# Altium footprint library Capasitor.PcbLib: 13 footprints
Each footprint in its own frame and in the unit in brackets; x right, y up, seen from the top. Pads: shape width x height; smd on the part's side, far side on the other; paste and mask are expansions set on the pad; w line width, h text height; cw(c..) or ccw(c..) is an arc to the next point about the centre after c.
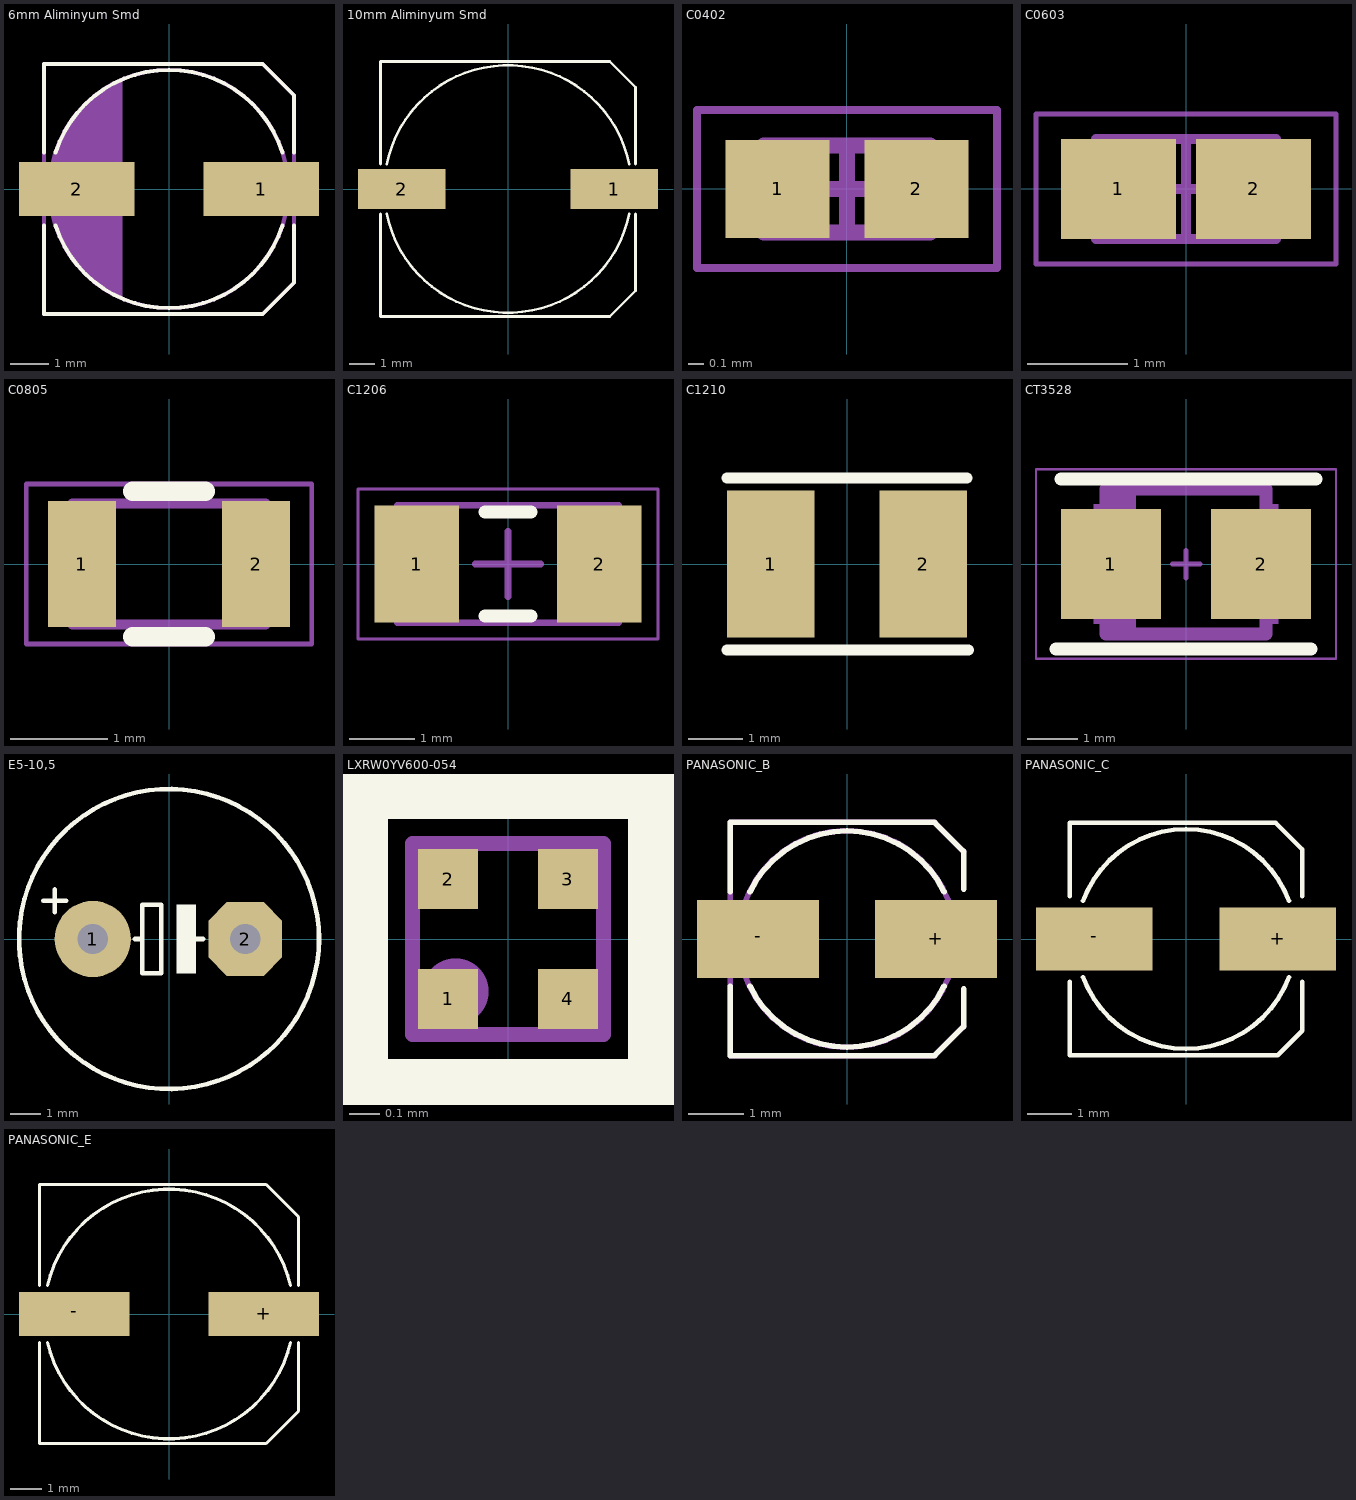
[diagram p0: the footprints below, top view; thin cyan lines are the x and y axes]

## 6mm Aliminyum Smd [mm]
pads (2):
  rect 3x1.4 smd: 1(2.4,0) 2(-2.4,0)
Top Overlay:
  lines w0.102: -3.25,-0.95 -3.25,-3.25 2.437,-3.25 3.25,-2.437 3.25,-0.95 ; -3.25,0.95 -3.25,3.25 2.437,3.25 3.25,2.437 3.25,0.95 ; -2.95,-0.95 ccw(c0,0) 2.95,-0.95 ; -2.95,0.95 cw(c0,0) 2.95,0.95
Mechanical 13:
  circle w0.1: c0,0 r3.1
  rectangle: 3.2,-0.6 3.5,0.6
  rectangle: -3.5,-0.6 -3.2,0.6
  rectangle: -2.125,-2.257 -1.263,2.299
  rectangle: -2.756,-1.419 -2.1,1.5
  rectangle: -3.1,-0.545 -2.7,0.5
  rectangle: -3.007,-0.754 -2.6,-0.5
  rectangle: -3,-0.9 -2.8,-0.7
  rectangle: -2.9,-0.9 -2.7,-0.7
  rectangle: -2.9,-1.1 -2.7,-0.9
  rectangle: -2.95,-0.95 -2.75,-0.75
  rectangle: -2.85,-1.25 -2.65,-1.05
  rectangle: -2.8,-1.375 -2.6,-1.175
  rectangle: -2.725,-1.55 -2.525,-1.35
  rectangle: -2.65,-1.675 -2.45,-1.475
  rectangle: -2.575,-1.8 -2.375,-1.6
  rectangle: -2.5,-1.875 -2.3,-1.675
  rectangle: -2.425,-1.975 -2.225,-1.775
  rectangle: -2.325,-2.075 -2.125,-1.875
  rectangle: -2.225,-2.175 -2.025,-1.975
  rectangle: -2.2,-2.225 -2,-2.025
  rectangle: -2.325,-2.125 -2.125,-1.925
  rectangle: -2.375,-2.025 -2.175,-1.825
  rectangle: -2.225,-1.95 -2.025,-1.75
  rectangle: -2.225,-2.05 -2.025,-1.85
  rectangle: -2.375,-1.8 -2.175,-1.6
  rectangle: -2.25,-1.775 -2.05,-1.575
  rectangle: -2.325,-1.925 -2.125,-1.725
  rectangle: -2.525,-1.675 -2.325,-1.475
  rectangle: -2.35,-1.675 -2.15,-1.475
  rectangle: -2.275,-1.675 -2.075,-1.475
  rectangle: -2.25,-1.55 -2.05,-1.35
  rectangle: -2.425,-1.55 -2.225,-1.35
  rectangle: -2.55,-1.55 -2.35,-1.35
  rectangle: -2.075,-2.375 -1.875,-2.175
  rectangle: -1.925,-2.475 -1.725,-2.275
  rectangle: -1.8,-2.575 -1.6,-2.375
  rectangle: -1.65,-2.65 -1.45,-2.45
  rectangle: -1.55,-2.725 -1.35,-2.525
  rectangle: -1.425,-2.8 -1.225,-2.6
  rectangle: -1.9,-2.475 -1.25,-2.2
  rectangle: -1.475,-2.65 -1.275,-2.45
  rectangle: -2.675,1.425 -2.475,1.625
  rectangle: -2.6,1.55 -2.4,1.75
  rectangle: -2.5,1.675 -2.3,1.875
  rectangle: -2.425,1.775 -2.225,1.975
  rectangle: -2.35,1.875 -2.15,2.075
  rectangle: -2.25,2 -2.05,2.2
  rectangle: -2.25,1.45 -2.05,2.05
  rectangle: -2.5,1.475 -2.125,1.8
  rectangle: -1.575,2.25 -1.3,2.7
  rectangle: -1.925,2.275 -1.45,2.475
  rectangle: -1.7,2.425 -1.5,2.625
  rectangle: -1.8,2.35 -1.6,2.55
  rectangle: -2.025,2.175 -1.825,2.375
  rectangle: -1.45,2.575 -1.25,2.775
  rectangle: -2.925,0.475 -2.725,1.025
  rectangle: -2.9,0.95 -2.7,1.15
  rectangle: -2.875,1.075 -2.675,1.275
  rectangle: -2.85,1.15 -2.65,1.35
  rectangle: -3.05,0.4 -2.85,0.75
  rectangle: -3.025,0.675 -2.825,0.875
  lines w0.1: -1.269,-2.829 -1.263,-2.829 -1.263,2.831
  lines w0.102: -3.25,-3.25 -3.25,-0.95 -3.25,3.25 2.437,3.25 3.25,2.437 3.25,-0.95 3.25,-2.437 2.437,-3.25 -3.25,-3.25
  text ".Designator" at 0.18,-0.387 h1
3D body "PANASONIC_D.step": height 5.71, standoff 0.01, extent -3.48,-3.3 3.52,3.3

## 10mm Aliminyum Smd [mm]
pads (2):
  rect 3.5x1.6 smd: 1(4.25,0) 2(-4.25,0)
Top Overlay:
  lines w0.102: -5.1,-1 -5.1,-5.1 4.07,-5.1 5.1,-4.07 5.1,-1 ; -5.1,1 -5.1,5.1 4.07,5.1 5.1,4.07 5.1,1 ; -4.85,-1 ccw(c0,0) 4.85,-1 ; -4.85,1 cw(c0,0) 4.85,1
3D body "10mmSmdAlimunyum.step": height 10.5, standoff 0, extent -5.775,-5.125 5.825,5.175

## C0402 [mm] "Chip Capacitor, 2-Leads, Body 1.00x0.50mm, IPC Medium Density"
height 0.55
pads (2):
  rect 0.66x0.62 smd: 1(-0.44,0) 2(0.44,0)
Mechanical 13:
  rectangle: -0.525,-0.275 -0.356,0.275
  rectangle: 0.349,-0.281 0.519,0.269
  lines w0.1: -0.525,-0.275 -0.525,0.275 0.525,0.275 0.525,-0.275 -0.525,-0.275
  text ".Designator" at -0.356,-0.037 h0.2
Mechanical 15:
  lines w0.05: -0.95,-0.5 -0.95,0.5 0.95,0.5 0.95,-0.5 -0.95,-0.5
  lines w0.1: -0.275,0 0.275,0 ; 0,-0.275 0,0.275
3D body "CAPC1005X06N.step": height 0.55, standoff 0, extent -0.525,-0.275 0.525,0.275

## C0603 [mm] "Chip Capacitor, 2-Leads, Body 1.60x0.80mm, IPC Medium Density"
height 1
pads (2):
  rect 1.15x1 smd: 1(-0.675,0) 2(0.675,0)
Mechanical 13:
  rectangle: -0.887,-0.5 -0.582,0.5
  rectangle: 0.595,-0.5 0.9,0.5
  lines w0.1: -0.9,-0.5 0.9,-0.5 0.9,0.5 -0.9,0.5 -0.9,-0.5
  text ".Designator" at -0.456,-0.056 h0.2
Mechanical 15:
  lines w0.05: -1.5,-0.75 1.5,-0.75 1.5,0.75 -1.5,0.75 -1.5,-0.75
  lines w0.1: -0.5,0 0.5,0 ; 0,-0.5 0,0.5
3D body "C0603.step": height 0.8, standoff 0, extent -0.8,-0.4 0.8,0.4

## C0805 [mm]
pads (2):
  rect 0.7x1.3 smd: 1(-0.9,0) 2(0.9,0)
Top Overlay:
  lines w0.2: -0.375,-0.75 0.375,-0.75 ; -0.375,0.75 0.375,0.75
Mechanical 13:
  rectangle: 0.595,-0.625 0.975,0.625
  rectangle: -1,-0.625 -0.582,0.625
  lines w0.1: -1,-0.625 1,-0.625 1,0.625 -1,0.625 -1,-0.625
  text ".Designator" at -1,-0.067 h0.2
Mechanical 15:
  lines w0.05: -1.475,-0.825 -1.475,0.825 1.475,0.825 1.475,-0.825 -1.475,-0.825
3D body "C0805.step": height 0.81, standoff 0.01, extent -1,-0.625 1,0.625

## C1206 [mm] "Chip Capacitor, 2-Leads, Body 3.20x1.60mm, IPC Medium Density"
height 1.8
pads (2):
  rect 1.3x1.8 smd: 1(-1.4,0) 2(1.4,0)
Top Overlay:
  lines w0.2: -0.35,-0.8 0.35,-0.8 ; -0.35,0.8 0.35,0.8
Mechanical 13:
  rectangle: 1.15,-0.9 1.7,0.9
  rectangle: -1.7,-0.9 -1.15,0.9
  lines w0.1: -1.7,-0.9 -1.7,0.9 1.7,0.9 1.7,-0.9 -1.7,-0.9
  text ".Designator" at -1,-0.117 h0.4
Mechanical 15:
  lines w0.05: -2.3,-1.15 -2.3,1.15 2.3,1.15 2.3,-1.15 -2.3,-1.15
  lines w0.1: -0.5,0 0.5,0 ; 0,-0.5 0,0.5
3D body "C1206.step": height 1.31, standoff 0.01, extent -1.6,-0.8 1.6,0.8

## C1210 [mm]
pads (2):
  rect 1.6x2.7 smd: 1(-1.4,0) 2(1.4,0)
Top Overlay:
  lines w0.2: -2.2,-1.575 2.225,-1.575 ; -2.2,1.575 2.2,1.575
3D body "C1210.step": height 2.1, standoff 0, extent -1.64,-1.25 1.64,1.25

## CT3528 [mm]
pads (2):
  rect 2x2.2 smd: 1(-1.5,0) 2(1.5,0)
Top Overlay:
  lines w0.254: -2.6,-1.7 2.5,-1.7 ; -2.5,1.7 2.6,1.7
Mechanical 13:
  region: 1.85,1.2 1.7,1.2 1.7,-1.2 1.85,-1.2
  rectangle: -1.85,-1.2 -1.7,1.2
  rectangle: -1.6,-1.4 -1,1.5
  lines w0.254: -1.6,-1.4 -1.6,1.5 1.6,1.5 1.6,-1.4 -1.6,-1.4
  text ".Designator" at 0.25,-3.749 h0.75
Mechanical 15:
  lines w0.05: -3,-1.9 3,-1.9 3,1.9 -3,1.9 -3,-1.9
  lines w0.1: -0.275,0 0.275,0 ; 0,-0.275 0,0.275
3D body "AVX_BCASE_3528.step": height 2.02, standoff -0.01, extent -1.85,-1.465 1.85,1.465

## E5-10,5 [mil]
pads (2):
  round 100 / inner round 60 / far side round 100 hole 40: 1(-100,0)
  oct 96.82x96.82 / inner oct 60x60 / far side oct 96.82x96.82 hole 40: 2(100,0)
Top Overlay:
  circle w6: c0,0 r196.85
  region: 10,-45 10,45 35,45 35,-45
  lines w6: -165,50 -135,50 ; -150,35 -150,65 ; -45,0 -35,0 ; 25,0 45,0 ; -35,0 -35,-45 -10,-45 -10,45 -35,45 -35,0
3D body "User Library-CAP_Electrolytic_10X14_.step": height 559.56, standoff -181.39, extent -196.85,-194.88 196.85,198.82

## LXRW0YV600-054 [mm]
pads (4):
  rect 0.2x0.2 smd: 1(-0.2,-0.2) 2(-0.2,0.2) 3(0.2,0.2) 4(0.2,-0.2)
Top Overlay:
  lines w0.2: -0.5,-0.5 -0.5,0.5 0.5,0.5 0.5,-0.5 -0.5,-0.5
Mechanical 13:
  circle w0.2: c-0.175,-0.175 r0.01
  lines w0.05: -0.318,-0.318 -0.318,0.318 0.318,0.318 0.318,-0.318 -0.318,-0.318
  text ".Designator" at -0.5,0.117 h0.1
3D body "LXRW0_MUR.step": height 0.31, standoff 0, extent -0.318,-0.318 0.318,0.318

## PANASONIC_B [mm]
pads (2):
  rect 2.2x1.4 smd: +(1.6,0) -(-1.6,0)
Top Overlay:
  lines w0.1: 2.1,-1.575 2.1,-0.9 ; 2.1,1.575 2.1,0.9 ; 2.1,-0.9 2.1,-0.9 ; 2.1,0.9 2.1,0.9
  lines w0.102: -2.1,-0.85 -2.1,-2.1 1.575,-2.1 2.1,-1.575 ; -2.1,0.85 -2.1,2.1 1.575,2.1 2.1,1.575 ; -1.75,-0.85 ccw(c0,0) 1.75,-0.85 ; -1.75,0.85 cw(c0,0) 1.75,0.85
Mechanical 3:
  circle w0.102: c0,0 r1.95
  region: 1.9,-0.35 1.9,0.35 2.3,0.35 2.3,-0.35
  region: -2.3,-0.35 -2.3,0.35 -1.85,0.35 -1.85,-0.35
  lines w0.102: 2.1,-1.575 1.575,-2.1 -2.1,-2.1 -2.1,2.1 1.575,2.1 2.1,1.575
3D body "PANASONIC_B.step": height 5.71, standoff 0.01, extent -2.297,-2.15 2.303,2.15

## PANASONIC_C [mm]
pads (2):
  rect 2.6x1.4 smd: +(2.05,0) -(-2.05,0)
Top Overlay:
  lines w0.102: -2.6,-0.95 -2.6,-2.6 2.05,-2.6 2.6,-2.05 2.6,-0.95 ; -2.6,0.95 -2.6,2.6 2,2.6 2.6,2 2.6,0.95 ; -2.3,-0.85 ccw(c0,0) 2.3,-0.85 ; -2.3,0.85 cw(c0,0) 2.3,0.85
3D body "PANASONIC_C.step": height 6.11, standoff 0.01, extent -2.95,-2.65 2.95,2.65

## PANASONIC_E [mm]
pads (2):
  rect 3.5x1.4 smd: +(3,0) -(-3,0)
Top Overlay:
  lines w0.102: -4.1,-0.9 -4.1,-4.1 3.075,-4.1 4.1,-3.075 4.1,-0.9 ; -4.1,0.9 -4.1,4.1 3.075,4.1 4.1,3.075 4.1,0.9 ; -3.85,-0.9 ccw(c0,0) 3.85,-0.9 ; -3.85,0.9 cw(c0,0) 3.85,0.9
3D body "PANASONIC_E.step": height 6.51, standoff 0.01, extent -4.55,-4.15 4.45,4.15